# EAGLE library part LM3S9B92-100 (library mbed-ics)
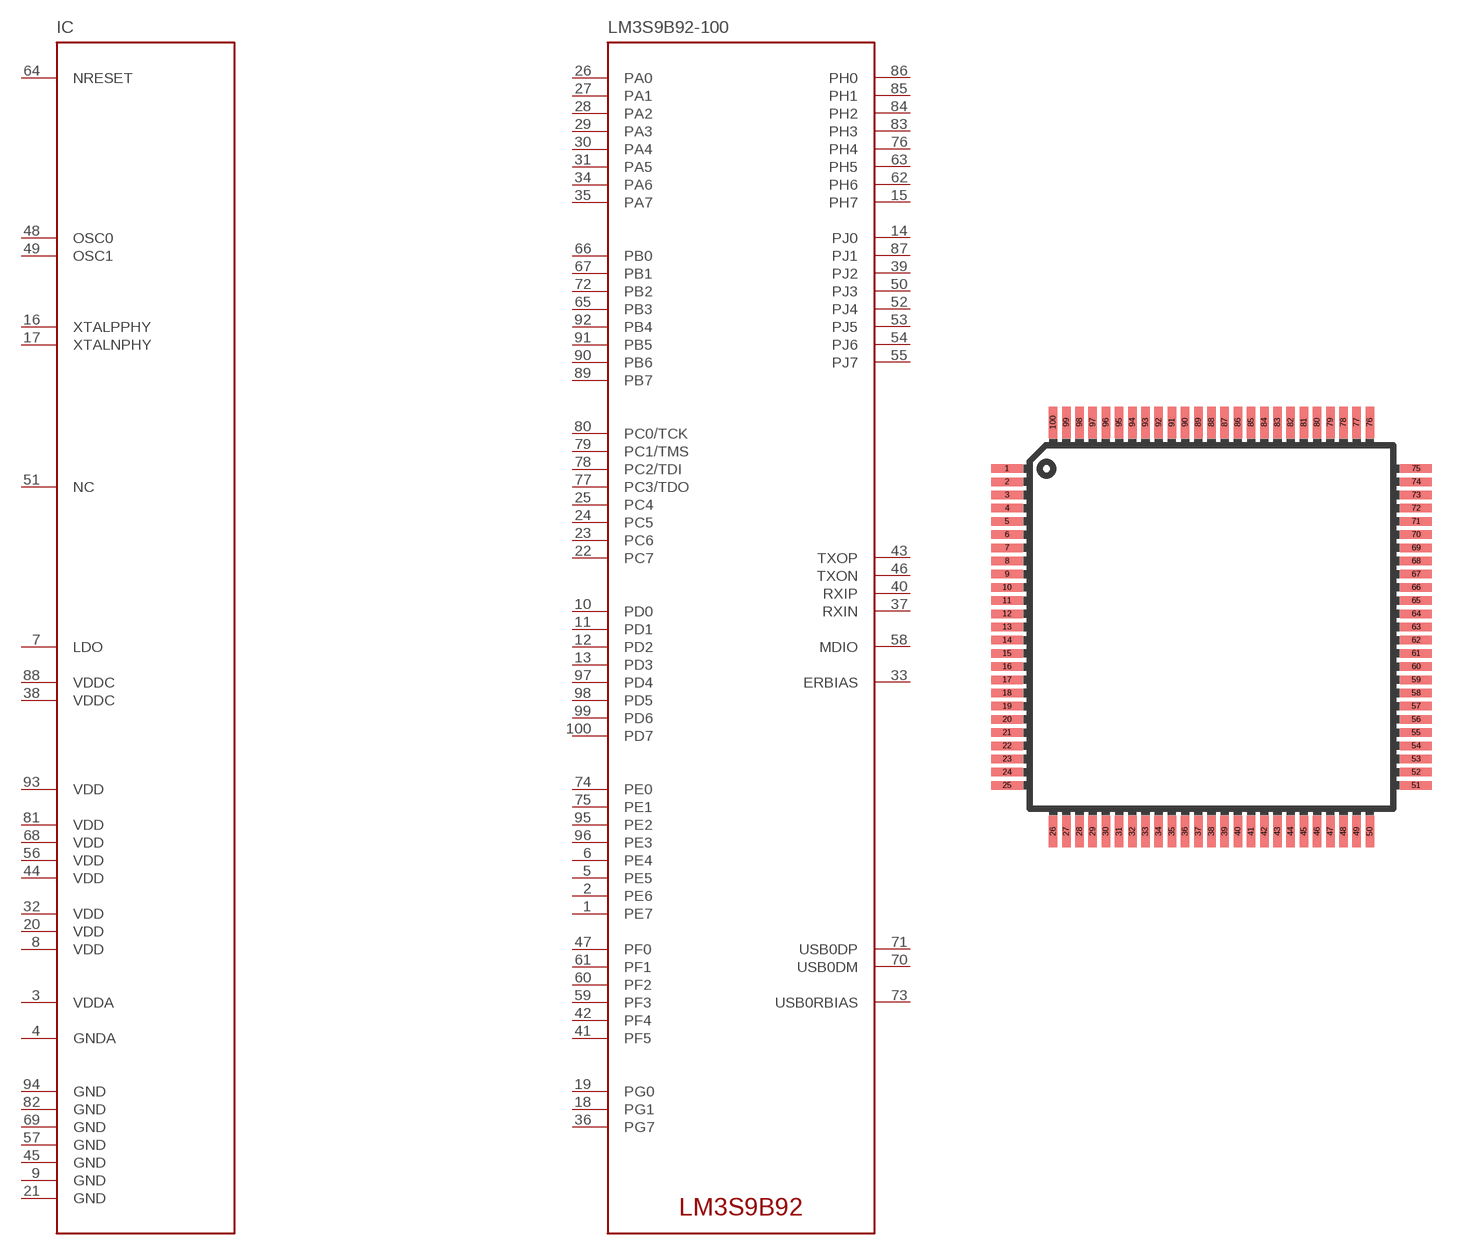
[diagram p11: symbol with the pads of LQFP100; footprint LQFP100]

Designator prefix IC

## LM3S9B92-100  [LQFP100]
1  PE7
2  PE6
3  VDDA  pwr
4  GNDA  pwr
5  PE5
6  PE4
7  LDO  pwr
8  VDD  pwr
9  GND  pwr
10  PD0
11  PD1
12  PD2
13  PD3
14  PJ0
15  PH7
16  XTALPPHY  pas
17  XTALNPHY  pas
18  PG1
19  PG0
20  VDD  pwr
21  GND  pwr
22  PC7
23  PC6
24  PC5
25  PC4
26  PA0
27  PA1
28  PA2
29  PA3
30  PA4
31  PA5
32  VDD  pwr
33  ERBIAS
34  PA6
35  PA7
36  PG7
37  RXIN
38  VDDC  pwr
39  PJ2
40  RXIP
41  PF5
42  PF4
43  TXOP
44  VDD  pwr
45  GND  pwr
46  TXON
47  PF0
48  OSC0  pas
49  OSC1  pas
50  PJ3
51  NC  nc
52  PJ4
53  PJ5
54  PJ6
55  PJ7
56  VDD  pwr
57  GND  pwr
58  MDIO
59  PF3
60  PF2
61  PF1
62  PH6
63  PH5
64  NRESET
65  PB3
66  PB0
67  PB1
68  VDD  pwr
69  GND  pwr
70  USB0DM
71  USB0DP
72  PB2
73  USB0RBIAS
74  PE0
75  PE1
76  PH4
77  PC3/TDO
78  PC2/TDI
79  PC1/TMS
80  PC0/TCK
81  VDD  pwr
82  GND  pwr
83  PH3
84  PH2
85  PH1
86  PH0
87  PJ1
88  VDDC  pwr
89  PB7
90  PB6
91  PB5
92  PB4
93  VDD  pwr
94  GND  pwr
95  PE2
96  PE3
97  PD4
98  PD5
99  PD6
100  PD7

## Footprint LQFP100 (pad centres in mm)
smd 1.2 x 0.32: 1 -7.75,6; 2 -7.75,5.5; 3 -7.75,5; 4 -7.75,4.5; 5 -7.75,4; 6 -7.75,3.5; 7 -7.75,3; 8 -7.75,2.5; 9 -7.75,2; 10 -7.75,1.5; 11 -7.75,1; 12 -7.75,0.5; 13 -7.75,0; 14 -7.75,-0.5; 15 -7.75,-1; 16 -7.75,-1.5; 17 -7.75,-2; 18 -7.75,-2.5; 19 -7.75,-3; 20 -7.75,-3.5; 21 -7.75,-4; 22 -7.75,-4.5; 23 -7.75,-5; 24 -7.75,-5.5; 25 -7.75,-6; 51 7.75,-6; 52 7.75,-5.5; 53 7.75,-5; 54 7.75,-4.5; 55 7.75,-4; 56 7.75,-3.5; 57 7.75,-3; 58 7.75,-2.5; 59 7.75,-2; 60 7.75,-1.5; 61 7.75,-1; 62 7.75,-0.5; 63 7.75,0; 64 7.75,0.5; 65 7.75,1; 66 7.75,1.5; 67 7.75,2; 68 7.75,2.5; 69 7.75,3; 70 7.75,3.5; 71 7.75,4; 72 7.75,4.5; 73 7.75,5; 74 7.75,5.5; 75 7.75,6
smd 0.32 x 1.2: 26 -6,-7.75; 27 -5.5,-7.75; 28 -5,-7.75; 29 -4.5,-7.75; 30 -4,-7.75; 31 -3.5,-7.75; 32 -3,-7.75; 33 -2.5,-7.75; 34 -2,-7.75; 35 -1.5,-7.75; 36 -1,-7.75; 37 -0.5,-7.75; 38 0,-7.75; 39 0.5,-7.75; 40 1,-7.75; 41 1.5,-7.75; 42 2,-7.75; 43 2.5,-7.75; 44 3,-7.75; 45 3.5,-7.75; 46 4,-7.75; 47 4.5,-7.75; 48 5,-7.75; 49 5.5,-7.75; 50 6,-7.75; 76 6,7.75; 77 5.5,7.75; 78 5,7.75; 79 4.5,7.75; 80 4,7.75; 81 3.5,7.75; 82 3,7.75; 83 2.5,7.75; 84 2,7.75; 85 1.5,7.75; 86 1,7.75; 87 0.5,7.75; 88 0,7.75; 89 -0.5,7.75; 90 -1,7.75; 91 -1.5,7.75; 92 -2,7.75; 93 -2.5,7.75; 94 -3,7.75; 95 -3.5,7.75; 96 -4,7.75; 97 -4.5,7.75; 98 -5,7.75; 99 -5.5,7.75; 100 -6,7.75